# EAGLE library part HDC1080DMBR (library LDC1614)
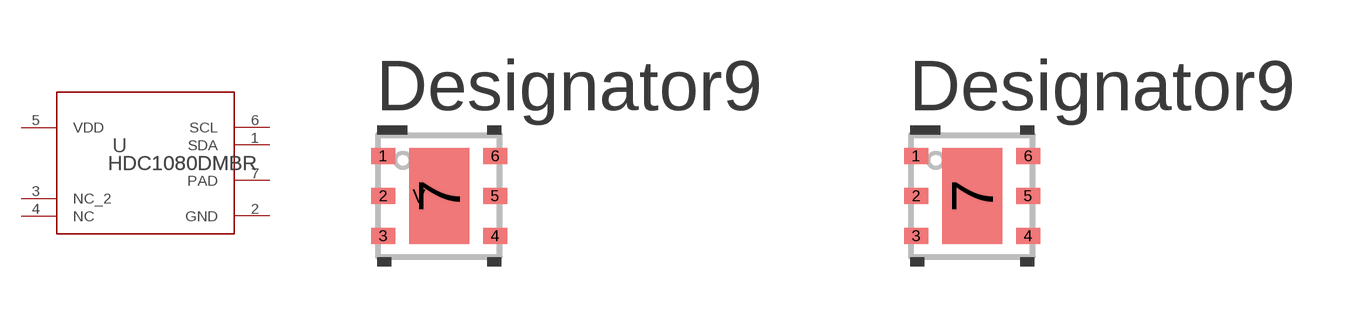
[diagram p3: symbol with the pads of DMB0006A; footprints DMB0006A, DMB0006A_NV]

Designator prefix U

## HDC1080DMBR (COPYRIGHT: Copyright (C) 2022 Ultra Librarian. All rights reserved.; MANUFACTURER_PART_NUMBER: HDC1080DMBR; MFR_NAME: Texas Instruments; REFDES: RefDes; TYPE: TYPE)  [DMB0006A]
1  SDA
2  GND  pwr
3  NC_2  pas
4  NC  pas
5  VDD  pwr
6  SCL  oc
7  PAD  pwr

## HDC1080DMBRDMB0006A_NV (COPYRIGHT: Copyright (C) 2022 Ultra Librarian. All rights reserved.; MANUFACTURER_PART_NUMBER: HDC1080DMBR; MFR_NAME: Texas Instruments; REFDES: RefDes; TYPE: TYPE)  [DMB0006A_NV]
Pads as for DMB0006A

## Footprint DMB0006A (pad centres in mm)
smd 0.6 x 0.4: 1 -1.4,1; 2 -1.4,0; 3 -1.4,-1; 4 1.4,-1; 5 1.4,0; 6 1.4,1
smd 1.5 x 2.4: 7 0,0
smd 0.5 x 0.5: V -0.5,0

## Footprint DMB0006A_NV (pad centres in mm)
smd 0.6 x 0.4: 1 -1.4,1; 2 -1.4,0; 3 -1.4,-1; 4 1.4,-1; 5 1.4,0; 6 1.4,1
smd 1.5 x 2.4: 7 0,0